# Altium footprint library LEDPcbLib.PcbLib: 2 footprints
Each footprint in its own frame and in the unit in brackets; x right, y up, seen from the top. Pads: shape width x height; smd on the part's side, far side on the other; paste and mask are expansions set on the pad; w line width, h text height; cw(c..) or ccw(c..) is an arc to the next point about the centre after c.
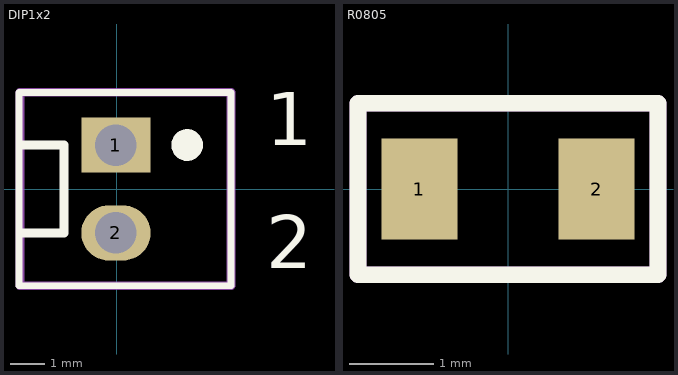
[diagram p0: the footprints below, top view; thin cyan lines are the x and y axes]

## DIP1x2 [mm]
pads (2):
  rect 2x1.6 hole 1.2: 1(-0.024,1.27)
  oval 2x1.6 hole 1.2: 2(-0.024,-1.27)
Top Overlay:
  circle w0.508: c2.032,1.27 r0.203
  lines w0.2: -2.823,-2.794 3.302,-2.794 3.302,2.788 -2.823,2.788 -2.823,-2.794
  lines w0.254: -2.794,-1.27 -1.524,-1.27 -1.524,1.27 -2.794,1.27
  text "1" at 4.318,1.27 h1.52
  text "2" at 4.318,-2.286 h1.52
Top Assembly:
  lines w0.254: -2.794,-2.794 -2.794,2.794 3.302,2.794 3.302,-2.794 -2.794,-2.794
  text "'.Designator'" at -4.877,-0.22 h1.02
3D body "022272021.stp": height 11.71, standoff -3.55, extent -2.9,-2.54 2.9,2.54

## R0805 [mm]
pads (2):
  rect 0.9x1.2 smd: 1(-1.05,0) 2(1.05,0)
Top Overlay:
  lines w0.2: -1.778,-1.016 1.778,-1.016 1.778,1.016 -1.778,1.016 -1.778,-1.016
Top Assembly:
  lines w0.2: -1.778,-1.016 1.778,-1.016 1.778,1.016 -1.778,1.016 -1.778,-1.016
  text "'.Designator'" at -5.588,-0.423 h1.02
3D body "1623201-1.STEP": height 0.61, standoff 0.01, extent -1.041,-0.619 0.959,0.631